# Altium footprint library OPAMP-LMV358-2CH-8PIN.PcbLib: 1 footprints
Each footprint in its own frame and in the unit in brackets; x right, y up, seen from the top. Pads: shape width x height; smd on the part's side, far side on the other; paste and mask are expansions set on the pad; w line width, h text height; cw(c..) or ccw(c..) is an arc to the next point about the centre after c.
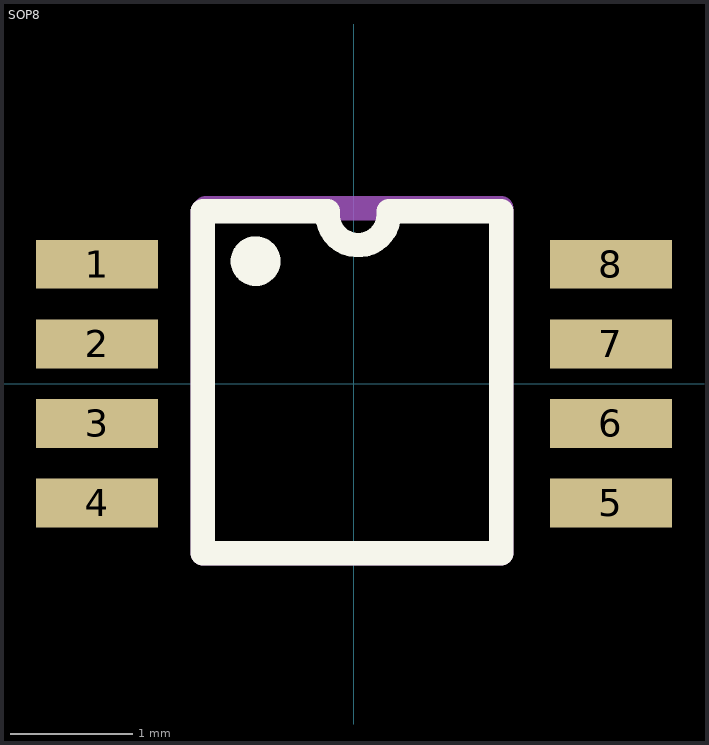
[diagram p0: the footprint, top view; thin cyan lines are the x and y axes]

## SOP8 [mm]
pads (8):
  rect 1x0.4 smd mask+0.06: 1(-2.1,0.975) 2(-2.1,0.325) 3(-2.1,-0.325) 4(-2.1,-0.975) 5(2.1,-0.975) 6(2.1,-0.325) 7(2.1,0.325) 8(2.1,0.975)
Top Overlay:
  circle w0.254: c-0.805,1 r0.076
  lines w0.2: -0.216,1.381 ccw(c0.034,1.381) 0.284,1.381 ; -0.216,1.407 -1.236,1.407 -1.236,-1.387 1.202,-1.387 1.202,1.407 0.284,1.407
Mechanical 29:
  circle w0.254: c-0.805,1 r0.057
  lines w0.2: -1.236,-1.387 1.202,-1.387 1.202,1.432 -1.211,1.432 -1.236,1.407 -1.236,-1.387
  text ".Designator" at 0.237,-0.93 h0.5
3D body "LMV358IDGKR.stp": height 1.1, standoff 0, extent -2.45,-1.5 2.45,1.5